# EAGLE library part WURTH_ELEKTRONIK-LAN_MAGNETICS_7490120110 (library Module_Inductors)
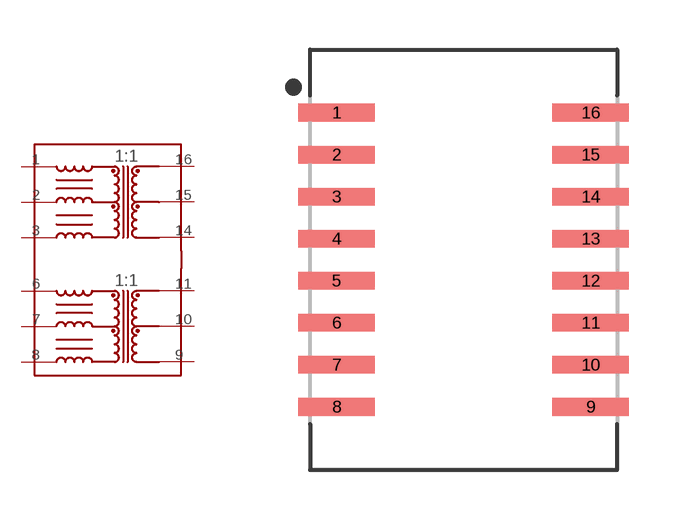
[diagram p0: symbol with the pads of WURTH_ELEKTRONIK-LAN_MAGNETICS_7490120110; footprint WURTH_ELEKTRONIK-LAN_MAGNETICS_7490120110]

Designator prefix U

## WURTH_ELEKTRONIK-LAN_MAGNETICS_7490120110  [WURTH_ELEKTRONIK-LAN_MAGNETICS_7490120110]
1  1
2  2
3  3
6  6
7  7
8  8
9  9
10  10
11  11
14  14
15  15
16  16

## Footprint WURTH_ELEKTRONIK-LAN_MAGNETICS_7490120110 (pad centres in mm)
16-SON, 1.27 mm pitch, 12.70 X 9.27 X 5.60 mm body 16-pin SON package with 1.27 mm pitch with body size 12.70 X 9.27 X 5.60 mm
smd 2.312 x 0.532: 1 -3.835,4.445; 2 -3.835,3.175; 3 -3.835,1.905; 4 -3.835,0.635; 5 -3.835,-0.635; 6 -3.835,-1.905; 7 -3.835,-3.175; 8 -3.835,-4.445; 9 3.835,-4.445; 10 3.835,-3.175; 11 3.835,-1.905; 12 3.835,-0.635; 13 3.835,0.635; 14 3.835,1.905; 15 3.835,3.175; 16 3.835,4.445